# Altium schematic symbol library INA332.SchLib: 1 symbol
Pins are listed as number, name and electrical type; pins without a type are passive.

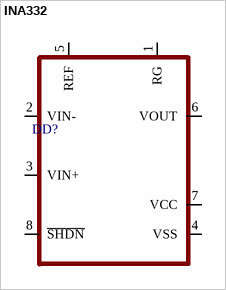
[diagram p0: symbol INA332]

## INA332
designator DD?
pins: 1 RG, 2 VIN-, 3 VIN+, 4 VSS, 5 REF, 6 VOUT, 7 VCC, 8 ~{SHDN}